# EAGLE library part FDS6375 (library lfpak.mosfet)
P-Channel 2.5V Specified PowerTrench MOSFET FDS6375 General Description This P-Channel 2.5V specified MOSFET is a rugged gate version of Fairchild Semiconductor’s advanced PowerTrench process. It has been optimized for power management applications with a wide range of gate drive voltage (2.5V – 8V). Applications · Power management · Load switch · Battery protection Features –8 A, –20 V: RDS(ON) = 24 mW @ VGS = –4.5 V RDS(ON) = 32 mW @ VGS = –2.5 V · Low gate charge (26 nC typical) · High performance trench technology for extremely low RDS(ON) · High current and power handling capability
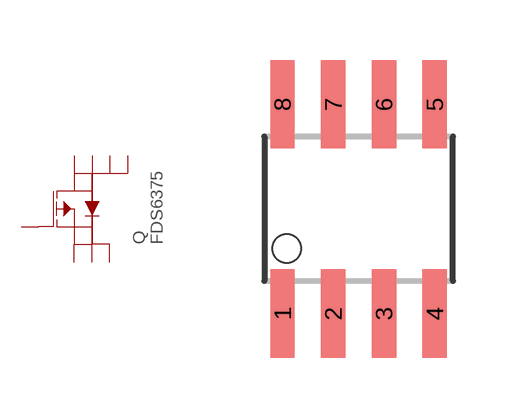
[diagram p8: symbol with the pads of SO08; footprint SO08]

Designator prefix Q

## FDS6375_SO08 (MPN: FDS6375; OC_FARNELL: 9846212; PACKAGE: SO08; SUPPLIER: FAIRCHILD)  [SO08]
1  S1
2  S2
3  S3
4  G
5  D1
6  D2
7  D3
8  D4

## Footprint SO08 (pad centres in mm)
Small Outline Package
smd 0.61 x 2.21: 1 -1.905,-2.616; 2 -0.635,-2.616; 3 0.635,-2.616; 4 1.905,-2.616; 5 1.905,2.616; 6 0.635,2.616; 7 -0.635,2.616; 8 -1.905,2.616